# Altium footprint library 4.01-2.00mm排针-排母.PcbLib: 40 footprints (part 2 of 3)
Each footprint in its own frame and in the unit in brackets; x right, y up, seen from the top. Pads: shape width x height; smd on the part's side, far side on the other; paste and mask are expansions set on the pad; w line width, h text height; cw(c..) or ccw(c..) is an arc to the next point about the centre after c.
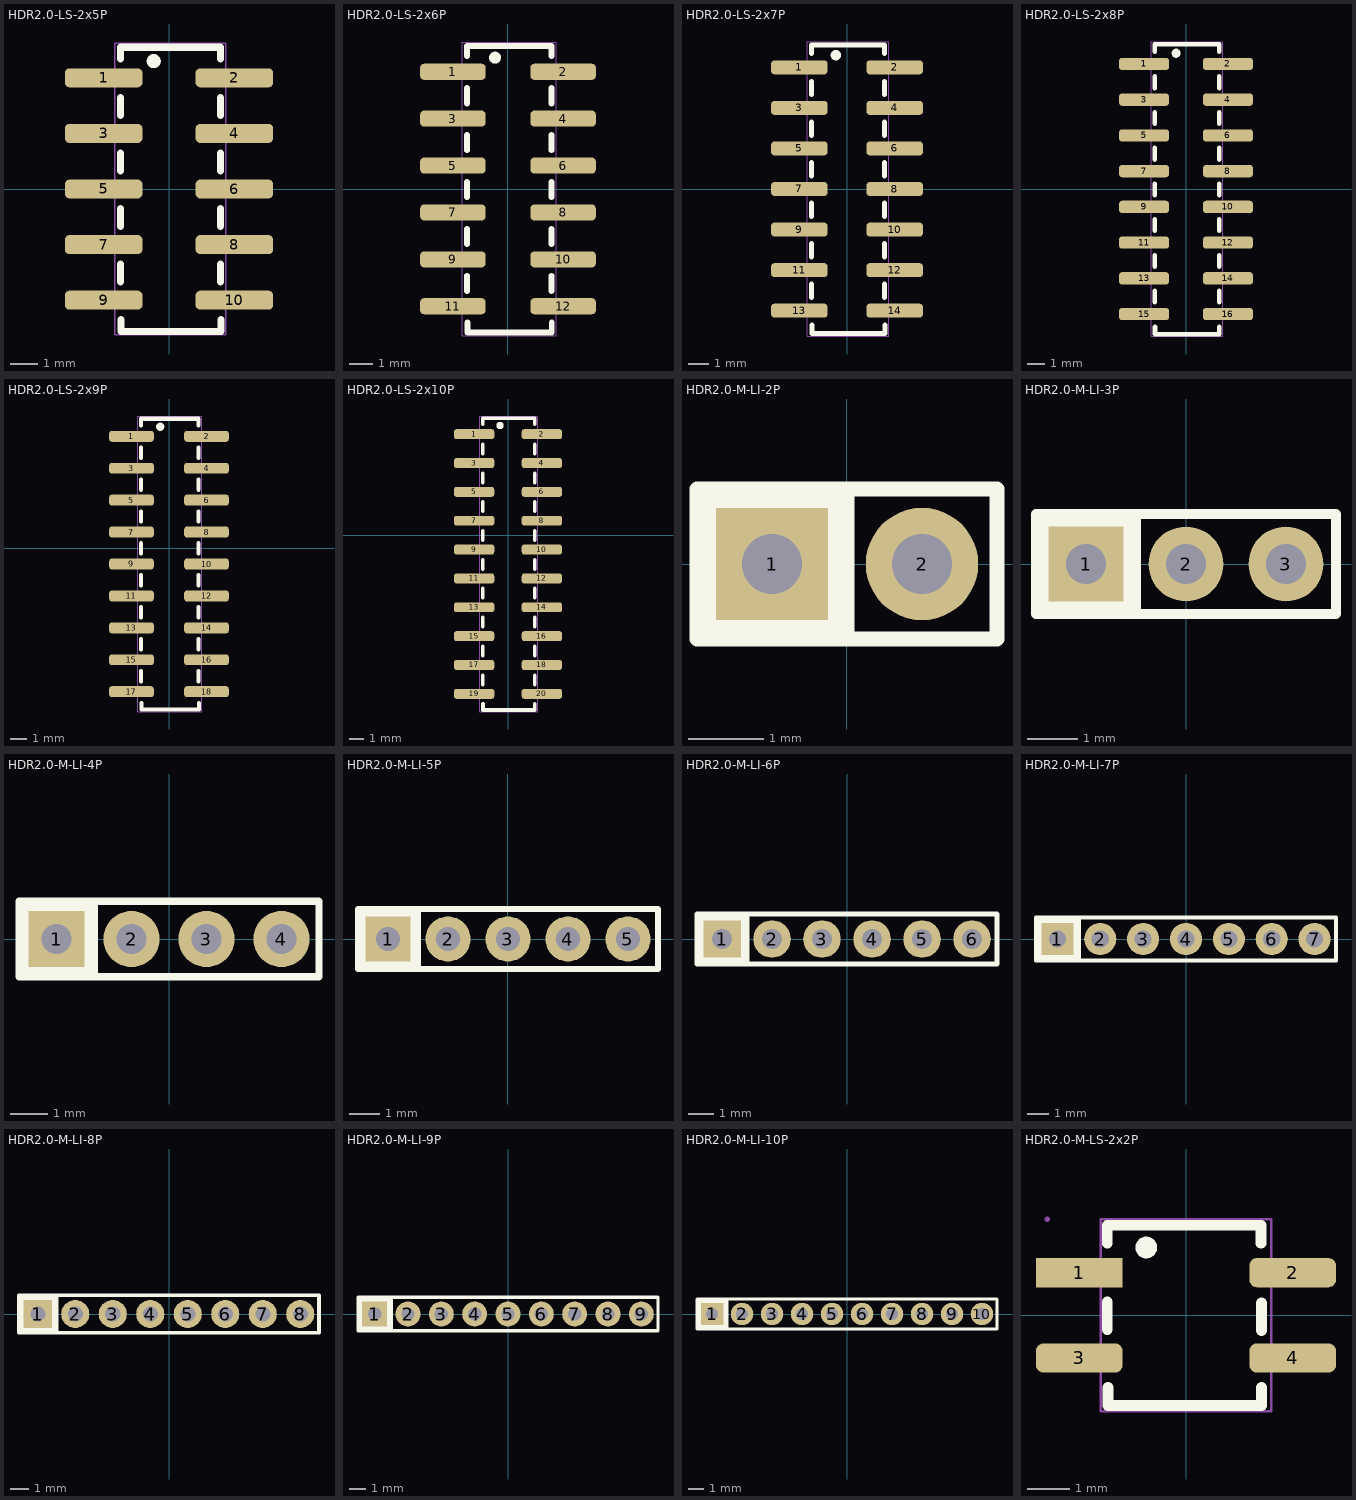
[diagram p1: the footprints below, top view; thin cyan lines are the x and y axes]

## HDR2.0-LS-2x5P [mil] "双排排针，SMD，2x5脚"
pads (10):
  rrect50% 110x27 smd mask+2: 1(-92.52,157.48) 2(92.52,157.48) 3(-92.52,78.74) 4(92.52,78.74) 5(-92.52,0) 6(92.52,0) 7(-92.52,-78.74) 8(92.52,-78.74) 9(-92.52,-157.48) 10(92.52,-157.48)
Top Overlay:
  circle w10: c-21.65,181.11 r5
  lines w10: -68.9,-131.8 -68.9,-106.3 ; -68.9,-53.06 -68.9,-27.56 ; -68.9,25.68 -68.9,51.18 ; -68.9,104.42 -68.9,129.92 ; -68.9,184.14 -68.9,200.79 72.83,200.79 72.83,184.14 ; -68.28,-185.02 -68.28,-201.67 73.45,-201.67 73.45,-185.02 ; 72.83,-131.8 72.83,-106.3 ; 72.83,-53.06 72.83,-27.56 ; 72.83,25.68 72.83,51.18 ; 72.83,104.42 72.83,129.92
Mechanical 15:
  region: -66.93,-167.31 -126.03,-167.31 -126.03,-147.61 -66.93,-147.61
  region: 129.97,-167.31 70.87,-167.31 70.87,-147.61 129.97,-147.61
  region: -66.93,68.91 -126.03,68.91 -126.03,88.61 -66.93,88.61
  region: -66.93,147.61 -126.03,147.61 -126.03,167.31 -66.93,167.31
  region: 129.97,147.61 70.87,147.61 70.87,167.31 129.97,167.31
  region: 129.97,68.91 70.87,68.91 70.87,88.61 129.97,88.61
  region: -66.93,-9.83 -126.03,-9.83 -126.03,9.87 -66.93,9.87
  region: 129.97,-9.83 70.87,-9.83 70.87,9.87 129.97,9.87
  region: -66.93,-88.57 -126.03,-88.57 -126.03,-68.87 -66.93,-68.87
  region: 129.97,-88.57 70.87,-88.57 70.87,-68.87 129.97,-68.87
  lines w2: -76.73,-206.71 -76.73,-127.97 -76.73,206.71 80.67,206.71 80.67,-127.97 80.67,-206.71 -76.73,-206.71
3D body "2_3.step": height 285.41, standoff 0, extent -124.01,-196.84 127.94,39.37
3D body "2_2.step": height 285.47, standoff 0, extent -124.03,39.37 127.97,196.86

## HDR2.0-LS-2x6P [mm] "双排排针，SMD，2x6脚"
pads (12):
  rrect50% 2.794x0.686 smd mask+0.051: 1(-2.35,5) 2(2.35,5) 3(-2.35,3) 4(2.35,3) 5(-2.35,1) 6(2.35,1) 7(-2.35,-1) 8(2.35,-1) 9(-2.35,-3) 10(2.35,-3) 11(-2.35,-5) 12(2.35,-5)
Top Overlay:
  circle w0.254: c-0.55,5.6 r0.127
  lines w0.254: -1.75,-4.348 -1.75,-3.7 ; -1.75,-2.348 -1.75,-1.7 ; -1.75,-0.348 -1.75,0.3 ; -1.75,1.652 -1.75,2.3 ; -1.75,3.652 -1.75,4.3 ; -1.75,5.677 -1.75,6.1 1.85,6.1 1.85,5.677 ; -1.734,-5.7 -1.734,-6.122 1.866,-6.122 1.866,-5.7 ; 1.85,-4.348 1.85,-3.7 ; 1.85,-2.348 1.85,-1.7 ; 1.85,-0.348 1.85,0.3 ; 1.85,1.652 1.85,2.3 ; 1.85,3.652 1.85,4.3
Mechanical 15:
  region: -1.7,-3.25 -3.201,-3.25 -3.201,-2.749 -1.7,-2.749
  region: -1.7,-1.251 -3.201,-1.251 -3.201,-0.75 -1.7,-0.75
  region: 3.301,-1.251 1.8,-1.251 1.8,-0.75 3.301,-0.75
  region: 3.301,-3.25 1.8,-3.25 1.8,-2.749 3.301,-2.749
  region: -1.7,-5.25 -3.201,-5.25 -3.201,-4.749 -1.7,-4.749
  region: 3.301,-5.25 1.8,-5.25 1.8,-4.749 3.301,-4.749
  region: -1.7,2.75 -3.201,2.75 -3.201,3.251 -1.7,3.251
  region: -1.7,4.749 -3.201,4.749 -3.201,5.25 -1.7,5.25
  region: 3.301,4.749 1.8,4.749 1.8,5.25 3.301,5.25
  region: 3.301,2.75 1.8,2.75 1.8,3.251 3.301,3.251
  region: -1.7,0.75 -3.201,0.75 -3.201,1.251 -1.7,1.251
  region: 3.301,0.75 1.8,0.75 1.8,1.251 3.301,1.251
  lines w0.051: -1.949,-6.25 -1.949,6.25 2.049,6.25 2.049,4.25 2.049,-6.25 -1.949,-6.25
3D body "2_3.step": height 7.25, standoff 0, extent -3.199,-6 3.2,0
3D body "2_3.step": height 7.25, standoff 0, extent -3.199,0 3.2,6

## HDR2.0-LS-2x7P [mil] "双排排针，SMD，2x7脚"
pads (14):
  rrect50% 110x27 smd mask+2: 1(-92.52,236.22) 2(92.52,236.22) 3(-92.52,157.48) 4(92.52,157.48) 5(-92.52,78.74) 6(92.52,78.74) 7(-92.52,0) 8(92.52,0) 9(-92.52,-78.74) 10(92.52,-78.74) 11(-92.52,-157.48) 12(92.52,-157.48) 13(-92.52,-236.22) 14(92.52,-236.22)
Top Overlay:
  circle w10: c-21.65,259.85 r5
  lines w10: -68.9,-210.54 -68.9,-185.04 ; -68.9,-131.8 -68.9,-106.3 ; -68.9,-53.06 -68.9,-27.56 ; -68.9,25.68 -68.9,51.18 ; -68.9,104.42 -68.9,129.92 ; -68.9,183.16 -68.9,208.66 ; -68.9,262.88 -68.9,279.53 72.83,279.53 72.83,262.88 ; -68.28,-263.76 -68.28,-280.41 73.45,-280.41 73.45,-263.76 ; 72.83,-210.54 72.83,-185.04 ; 72.83,-131.8 72.83,-106.3 ; 72.83,-53.06 72.83,-27.56 ; 72.83,25.68 72.83,51.18 ; 72.83,104.42 72.83,129.92 ; 72.83,183.16 72.83,208.66
Mechanical 15:
  region: -66.93,-88.57 -126.03,-88.57 -126.03,-68.87 -66.93,-68.87
  region: -66.93,-9.87 -126.03,-9.87 -126.03,9.83 -66.93,9.83
  region: 129.97,-9.87 70.87,-9.87 70.87,9.83 129.97,9.83
  region: 129.97,-88.57 70.87,-88.57 70.87,-68.87 129.97,-68.87
  region: -66.93,-167.31 -126.03,-167.31 -126.03,-147.61 -66.93,-147.61
  region: 129.97,-167.31 70.87,-167.31 70.87,-147.61 129.97,-147.61
  region: -66.93,147.65 -126.03,147.65 -126.03,167.35 -66.93,167.35
  region: -66.93,226.35 -126.03,226.35 -126.03,246.05 -66.93,246.05
  region: 129.97,226.35 70.87,226.35 70.87,246.05 129.97,246.05
  region: 129.97,147.65 70.87,147.65 70.87,167.35 129.97,167.35
  region: -66.93,68.91 -126.03,68.91 -126.03,88.61 -66.93,88.61
  region: 129.97,68.91 70.87,68.91 70.87,88.61 129.97,88.61
  region: -66.93,-246.05 -126.03,-246.05 -126.03,-226.35 -66.93,-226.35
  region: 129.97,-246.05 70.87,-246.05 70.87,-226.35 129.97,-226.35
  lines w2: -76.73,-285.45 -76.73,285.45 80.67,285.45 80.67,206.71 80.67,-285.45 -76.73,-285.45
3D body "2_2.step": height 285.47, standoff 0, extent -125.99,-118.11 126.01,39.39
3D body "2_2.step": height 285.47, standoff 0, extent -125.99,-275.59 126.01,-118.1
3D body "2_3.step": height 285.41, standoff 0, extent -125.96,39.37 125.98,275.57

## HDR2.0-LS-2x8P [mm] "双排排针，SMD，2x8脚"
pads (16):
  rrect50% 2.794x0.686 smd mask+0.051: 1(-2.35,7) 2(2.35,7) 3(-2.35,5) 4(2.35,5) 5(-2.35,3) 6(2.35,3) 7(-2.35,1) 8(2.35,1) 9(-2.35,-1) 10(2.35,-1) 11(-2.35,-3) 12(2.35,-3) 13(-2.35,-5) 14(2.35,-5) 15(-2.35,-7) 16(2.35,-7)
Top Overlay:
  circle w0.254: c-0.55,7.6 r0.127
  lines w0.254: -1.75,-6.348 -1.75,-5.7 ; -1.75,-4.348 -1.75,-3.7 ; -1.75,-2.348 -1.75,-1.7 ; -1.75,-0.348 -1.75,0.3 ; -1.75,1.652 -1.75,2.3 ; -1.75,3.652 -1.75,4.3 ; -1.75,5.652 -1.75,6.3 ; -1.75,7.677 -1.75,8.1 1.85,8.1 1.85,7.677 ; -1.734,-7.7 -1.734,-8.122 1.866,-8.122 1.866,-7.7 ; 1.85,-6.348 1.85,-5.7 ; 1.85,-4.348 1.85,-3.7 ; 1.85,-2.348 1.85,-1.7 ; 1.85,-0.348 1.85,0.3 ; 1.85,1.652 1.85,2.3 ; 1.85,3.652 1.85,4.3 ; 1.85,5.652 1.85,6.3
Mechanical 15:
  region: -1.7,-1.25 -3.201,-1.25 -3.201,-0.749 -1.7,-0.749
  region: -1.7,0.749 -3.201,0.749 -3.201,1.25 -1.7,1.25
  region: 3.301,0.749 1.8,0.749 1.8,1.25 3.301,1.25
  region: 3.301,-1.25 1.8,-1.25 1.8,-0.749 3.301,-0.749
  region: -1.7,-3.25 -3.201,-3.25 -3.201,-2.749 -1.7,-2.749
  region: 3.301,-3.25 1.8,-3.25 1.8,-2.749 3.301,-2.749
  region: -1.7,4.75 -3.201,4.75 -3.201,5.251 -1.7,5.251
  region: -1.7,6.749 -3.201,6.749 -3.201,7.25 -1.7,7.25
  region: 3.301,6.749 1.8,6.749 1.8,7.25 3.301,7.25
  region: 3.301,4.75 1.8,4.75 1.8,5.251 3.301,5.251
  region: -1.7,2.75 -3.201,2.75 -3.201,3.251 -1.7,3.251
  region: 3.301,2.75 1.8,2.75 1.8,3.251 3.301,3.251
  region: -1.7,-5.25 -3.201,-5.25 -3.201,-4.749 -1.7,-4.749
  region: 3.301,-5.25 1.8,-5.25 1.8,-4.749 3.301,-4.749
  region: -1.7,-7.25 -3.201,-7.25 -3.201,-6.749 -1.7,-6.749
  region: 3.301,-7.25 1.8,-7.25 1.8,-6.749 3.301,-6.749
  lines w0.051: -1.949,-8.25 2.049,-8.25 2.049,6.25 2.049,8.25 -1.949,8.25 -1.949,-8.25
3D body "2_3.step": height 7.25, standoff 0, extent -3.199,2 3.2,8
3D body "2_2.step": height 7.25, standoff 0, extent -3.2,-8 3.201,-4
3D body "2_3.step": height 7.25, standoff 0, extent -3.199,-4 3.2,2

## HDR2.0-LS-2x9P [mm] "双排排针，SMD，2x9脚"
pads (18):
  rrect50% 2.794x0.686 smd mask+0.051: 1(-2.35,7) 2(2.35,7) 3(-2.35,5) 4(2.35,5) 5(-2.35,3) 6(2.35,3) 7(-2.35,1) 8(2.35,1) 9(-2.35,-1) 10(2.35,-1) 11(-2.35,-3) 12(2.35,-3) 13(-2.35,-5) 14(2.35,-5) 15(-2.35,-7) 16(2.35,-7) 17(-2.35,-9) 18(2.35,-9)
Top Overlay:
  circle w0.254: c-0.55,7.6 r0.127
  lines w0.254: -1.75,-8.348 -1.75,-7.7 ; -1.75,-6.348 -1.75,-5.7 ; -1.75,-4.348 -1.75,-3.7 ; -1.75,-2.348 -1.75,-1.7 ; -1.75,-0.348 -1.75,0.3 ; -1.75,1.652 -1.75,2.3 ; -1.75,3.652 -1.75,4.3 ; -1.75,5.652 -1.75,6.3 ; -1.75,7.677 -1.75,8.1 1.85,8.1 1.85,7.677 ; -1.734,-9.7 -1.734,-10.122 1.866,-10.122 1.866,-9.7 ; 1.85,-8.348 1.85,-7.7 ; 1.85,-6.348 1.85,-5.7 ; 1.85,-4.348 1.85,-3.7 ; 1.85,-2.348 1.85,-1.7 ; 1.85,-0.348 1.85,0.3 ; 1.85,1.652 1.85,2.3 ; 1.85,3.652 1.85,4.3 ; 1.85,5.652 1.85,6.3
Mechanical 15:
  region: -1.7,-1.25 -3.201,-1.25 -3.201,-0.749 -1.7,-0.749
  region: -1.7,0.749 -3.201,0.749 -3.201,1.25 -1.7,1.25
  region: 3.301,0.749 1.8,0.749 1.8,1.25 3.301,1.25
  region: 3.301,-1.25 1.8,-1.25 1.8,-0.749 3.301,-0.749
  region: -1.7,-3.25 -3.201,-3.25 -3.201,-2.749 -1.7,-2.749
  region: 3.301,-3.25 1.8,-3.25 1.8,-2.749 3.301,-2.749
  region: -1.7,4.75 -3.201,4.75 -3.201,5.251 -1.7,5.251
  region: -1.7,6.749 -3.201,6.749 -3.201,7.25 -1.7,7.25
  region: 3.301,6.749 1.8,6.749 1.8,7.25 3.301,7.25
  region: 3.301,4.75 1.8,4.75 1.8,5.251 3.301,5.251
  region: -1.7,2.75 -3.201,2.75 -3.201,3.251 -1.7,3.251
  region: 3.301,2.75 1.8,2.75 1.8,3.251 3.301,3.251
  region: -1.7,-5.25 -3.201,-5.25 -3.201,-4.749 -1.7,-4.749
  region: 3.301,-5.25 1.8,-5.25 1.8,-4.749 3.301,-4.749
  region: -1.7,-7.25 -3.201,-7.25 -3.201,-6.749 -1.7,-6.749
  region: 3.301,-7.25 1.8,-7.25 1.8,-6.749 3.301,-6.749
  region: -1.7,-9.25 -3.201,-9.25 -3.201,-8.749 -1.7,-8.749
  region: 3.301,-9.25 1.8,-9.25 1.8,-8.749 3.301,-8.749
  lines w0.051: -1.949,-10.25 -1.949,8.25 2.049,8.25 2.049,6.25 2.049,-10.25 -1.949,-10.25
3D body "2_3.step": height 7.25, standoff 0, extent -3.199,2 3.2,8
3D body "2_3.step": height 7.25, standoff 0, extent -3.199,-4 3.2,2
3D body "2_3.step": height 7.25, standoff 0, extent -3.199,-10 3.2,-4

## HDR2.0-LS-2x10P [mm] "双排排针，SMD，2x10脚"
pads (20):
  rrect50% 2.794x0.686 smd mask+0.051: 1(-2.35,7) 2(2.35,7) 3(-2.35,5) 4(2.35,5) 5(-2.35,3) 6(2.35,3) 7(-2.35,1) 8(2.35,1) 9(-2.35,-1) 10(2.35,-1) 11(-2.35,-3) 12(2.35,-3) 13(-2.35,-5) 14(2.35,-5) 15(-2.35,-7) 16(2.35,-7) 17(-2.35,-9) 18(2.35,-9) 19(-2.35,-11) 20(2.35,-11)
Top Overlay:
  circle w0.254: c-0.55,7.6 r0.127
  lines w0.254: -1.75,-10.348 -1.75,-9.7 ; -1.75,-8.348 -1.75,-7.7 ; -1.75,-6.348 -1.75,-5.7 ; -1.75,-4.348 -1.75,-3.7 ; -1.75,-2.348 -1.75,-1.7 ; -1.75,-0.348 -1.75,0.3 ; -1.75,1.652 -1.75,2.3 ; -1.75,3.652 -1.75,4.3 ; -1.75,5.652 -1.75,6.3 ; -1.75,7.677 -1.75,8.1 1.85,8.1 1.85,7.677 ; -1.734,-11.7 -1.734,-12.122 1.866,-12.122 1.866,-11.7 ; 1.85,-10.348 1.85,-9.7 ; 1.85,-8.348 1.85,-7.7 ; 1.85,-6.348 1.85,-5.7 ; 1.85,-4.348 1.85,-3.7 ; 1.85,-2.348 1.85,-1.7 ; 1.85,-0.348 1.85,0.3 ; 1.85,1.652 1.85,2.3 ; 1.85,3.652 1.85,4.3 ; 1.85,5.652 1.85,6.3
Mechanical 15:
  region: 3.301,-9.25 1.8,-9.25 1.8,-8.749 3.301,-8.749
  region: -1.7,-9.25 -3.201,-9.25 -3.201,-8.749 -1.7,-8.749
  region: 3.301,-7.25 1.8,-7.25 1.8,-6.749 3.301,-6.749
  region: -1.7,-7.25 -3.201,-7.25 -3.201,-6.749 -1.7,-6.749
  region: 3.301,-5.25 1.8,-5.25 1.8,-4.749 3.301,-4.749
  region: -1.7,-5.25 -3.201,-5.25 -3.201,-4.749 -1.7,-4.749
  region: 3.301,2.75 1.8,2.75 1.8,3.251 3.301,3.251
  region: -1.7,2.75 -3.201,2.75 -3.201,3.251 -1.7,3.251
  region: 3.301,4.75 1.8,4.75 1.8,5.251 3.301,5.251
  region: 3.301,6.749 1.8,6.749 1.8,7.25 3.301,7.25
  region: -1.7,6.749 -3.201,6.749 -3.201,7.25 -1.7,7.25
  region: -1.7,4.75 -3.201,4.75 -3.201,5.251 -1.7,5.251
  region: 3.301,-3.25 1.8,-3.25 1.8,-2.749 3.301,-2.749
  region: -1.7,-3.25 -3.201,-3.25 -3.201,-2.749 -1.7,-2.749
  region: 3.301,-1.25 1.8,-1.25 1.8,-0.749 3.301,-0.749
  region: 3.301,0.749 1.8,0.749 1.8,1.25 3.301,1.25
  region: -1.7,0.749 -3.201,0.749 -3.201,1.25 -1.7,1.25
  region: -1.7,-1.25 -3.201,-1.25 -3.201,-0.749 -1.7,-0.749
  region: 3.301,-11.25 1.8,-11.25 1.8,-10.749 3.301,-10.749
  region: -1.7,-11.25 -3.201,-11.25 -3.201,-10.749 -1.7,-10.749
  lines w0.051: -1.949,-12.25 -1.949,8.25 2.049,8.25 2.049,6.25 2.049,-12.25 -1.949,-12.25
3D body "2_3.step": height 7.25, standoff 0, extent -3.199,-4 3.2,2
3D body "2_3.step": height 7.25, standoff 0, extent -3.199,2 3.2,8
3D body "2_2.step": height 7.25, standoff 0, extent -3.2,-8 3.201,-4
3D body "2_2.step": height 7.25, standoff 0, extent -3.2,-12 3.201,-8

## HDR2.0-M-LI-2P [mm] "直插排母，脚距：2.0mm  封装库来自淘宝卖家 ID：黄晶宝石"
pads (2):
  rect 1.5x1.5 hole 0.8: 1(-1,0)
  round 1.5 hole 0.8: 2(1,0)
Top Overlay:
  rectangle: -2,-1 0,1
  lines w0.2: 0,-1 0,1 ; -2,-1 2,-1 2,1 -2,1 -2,-1
3D body "HDR2.0-M-LI-2P.STEP": height 5.5, standoff -2.27, extent -2,-1 2,1

## HDR2.0-M-LI-3P [mm] "直插排母，脚距：2.0mm 封装库来自淘宝卖家 ID：黄晶宝石"
pads (3):
  rect 1.5x1.5 hole 0.8: 1(-2,0)
  round 1.5 hole 0.8: 2(0,0) 3(2,0)
Top Overlay:
  rectangle: -3,-1 -1,1
  lines w0.2: -1,-1 -1,1 ; -3,-1 -3,1 3,1 3,-1 -3,-1
3D body "HDR2.0-M-LI-3P.STEP": height 5.5, standoff -2.27, extent -3,-1 3,1

## HDR2.0-M-LI-4P [mm] "直插排母，脚距：2.0mm  封装库来自淘宝卖家 ID：黄晶宝石"
pads (4):
  rect 1.5x1.5 hole 0.8: 1(-3,0)
  round 1.5 hole 0.8: 2(-1,0) 3(1,0) 4(3,0)
Top Overlay:
  rectangle: -4,-1 -2,1
  lines w0.2: -2,-1 -2,1 ; -4,-1 4,-1 4,1 -4,1 -4,-1
3D body "HDR2.0-M-LI-4P.STEP": height 5.5, standoff -2.27, extent -4,-1 4,1

## HDR2.0-M-LI-5P [mm] "直插排母，脚距：2.0mm  封装库来自淘宝卖家 ID：黄晶宝石"
pads (5):
  rect 1.5x1.5 hole 0.8: 1(-4,0)
  round 1.5 hole 0.8: 2(-2,0) 3(0,0) 4(2,0) 5(4,0)
Top Overlay:
  rectangle: -5,-1 -3,1
  lines w0.2: -3,-1 -3,1 ; -5,-1 5,-1 ; -5,-1 -5,1 5,1 5,-1 ; -5,-1 5,-1
3D body "HDR2.0-M-LI-5P.STEP": height 5.5, standoff -2.27, extent -5,-1 5,1

## HDR2.0-M-LI-6P [mm] "直插排母，脚距：2.0mm  封装库来自淘宝卖家 ID：黄晶宝石"
pads (6):
  rect 1.5x1.5 hole 0.8: 1(-5,0)
  round 1.5 hole 0.8: 2(-3,0) 3(-1,0) 4(1,0) 5(3,0) 6(5,0)
Top Overlay:
  rectangle: -6,-1 -4,1
  lines w0.2: -4,-1 -4,1 ; -6,-1 6,-1 6,1 -6,1 -6,-1
3D body "HDR2.0-M-LI-6P.STEP": height 5.5, standoff -2.27, extent -6,-1 6,1

## HDR2.0-M-LI-7P [mm] "直插排母，脚距：2.0mm  封装库来自淘宝卖家 ID：黄晶宝石"
pads (7):
  rect 1.5x1.5 hole 0.8: 1(-6,0)
  round 1.5 hole 0.8: 2(-4,0) 3(-2,0) 4(0,0) 5(2,0) 6(4,0) 7(6,0)
Top Overlay:
  rectangle: -7,-1 -5,1
  lines w0.2: -5,-1 -5,1 ; -7,-1 7,-1 7,1 -7,1 -7,-1
3D body "HDR2.0-M-LI-7P.STEP": height 1.77, standoff -6, extent -7,-1 7,1

## HDR2.0-M-LI-8P [mm] "直插排母，脚距：2.0mm  封装库来自淘宝卖家 ID：黄晶宝石"
pads (8):
  rect 1.5x1.5 hole 0.8: 1(-7,0)
  round 1.5 hole 0.8: 2(-5,0) 3(-3,0) 4(-1,0) 5(1,0) 6(3,0) 7(5,0) 8(7,0)
Top Overlay:
  rectangle: -8,-1 -6,1
  lines w0.2: -6,-1 -6,1 ; -8,-1 -8,1 8,1 8,-1 -8,-1
3D body "HDR2.0-M-LI-8P.STEP": height 1.77, standoff -6, extent -8,-1 8,1

## HDR2.0-M-LI-9P [mm] "直插排母，脚距：2.0mm"
pads (9):
  rect 1.5x1.5 hole 0.8: 1(-8,0)
  round 1.5 hole 0.8: 2(-6,0) 3(-4,0) 4(-2,0) 5(0,0) 6(2,0) 7(4,0) 8(6,0) 9(8,0)
Top Overlay:
  rectangle: -9,-1 -7,1
  lines w0.2: -7,-1 -7,1 ; -9,-1 9,-1 9,1 -9,1 -9,-1
3D body "HDR2.0-M-LI-9P.STEP": height 5.5, standoff -2.27, extent -9,-1 9,1

## HDR2.0-M-LI-10P [mm] "直插排母，脚距：2.0mm"
pads (10):
  rect 1.5x1.5 hole 0.8: 1(-9,0)
  round 1.5 hole 0.8: 2(-7,0) 3(-5,0) 4(-3,0) 5(-1,0) 6(1,0) 7(3,0) 8(5,0) 9(7,0) 10(9,0)
Top Overlay:
  rectangle: -10,-1 -8,1
  lines w0.2: -8,-1 -8,1 ; -10,-1 10,-1 10,1 -10,1 -10,-1
3D body "HDR2.0-M-LI-10P.STEP": height 5.5, standoff -2.27, extent -10,-1 10,1

## HDR2.0-M-LS-2x2P [mm] "双排排母，SMD，2x2脚"
pads (4):
  rect 2.032x0.686 smd mask+0.051: 1(-2.5,1)
  rrect50% 2.032x0.686 smd mask+0.051: 2(2.5,1) 3(-2.5,-1) 4(2.5,-1)
Top Overlay:
  circle w0.254: c-0.929,1.589 r0.127
  lines w0.254: -1.845,-0.336 -1.845,0.311 ; -1.845,1.688 -1.845,2.111 1.755,2.111 1.755,1.688 ; -1.829,-1.688 -1.829,-2.111 1.771,-2.111 1.771,-1.688 ; 1.771,-0.359 1.771,0.289
Mechanical 15:
  region: -3.251,2.189 -3.226,2.189 -3.19,2.225 -3.19,2.276 -3.226,2.311 -3.251,2.311 -3.276,2.311 -3.312,2.276 -3.312,2.225 -3.276,2.189 -3.251,2.189
  region: 3.251,0.749 1.75,0.749 1.75,1.25 3.251,1.25
  region: 3.251,-1.25 1.75,-1.25 1.75,-0.749 3.251,-0.749
  region: -1.75,-1.25 -3.251,-1.25 -3.251,-0.749 -1.75,-0.749
  region: -1.75,0.749 -3.251,0.749 -3.251,1.25 -1.75,1.25
  lines w0.051: -1.999,-2.25 1.999,-2.25 1.999,2.25 -1.999,2.25 -1.999,-2.25
3D body "CONN-SMD_X4621FVS-2X02-C43D65.step": height 4.6, standoff 0, extent -3.25,-2.25 3.25,2.25